# Altium integrated library AMCC PowerPC 440.IntLib: 120 symbols (part 20 of 33)
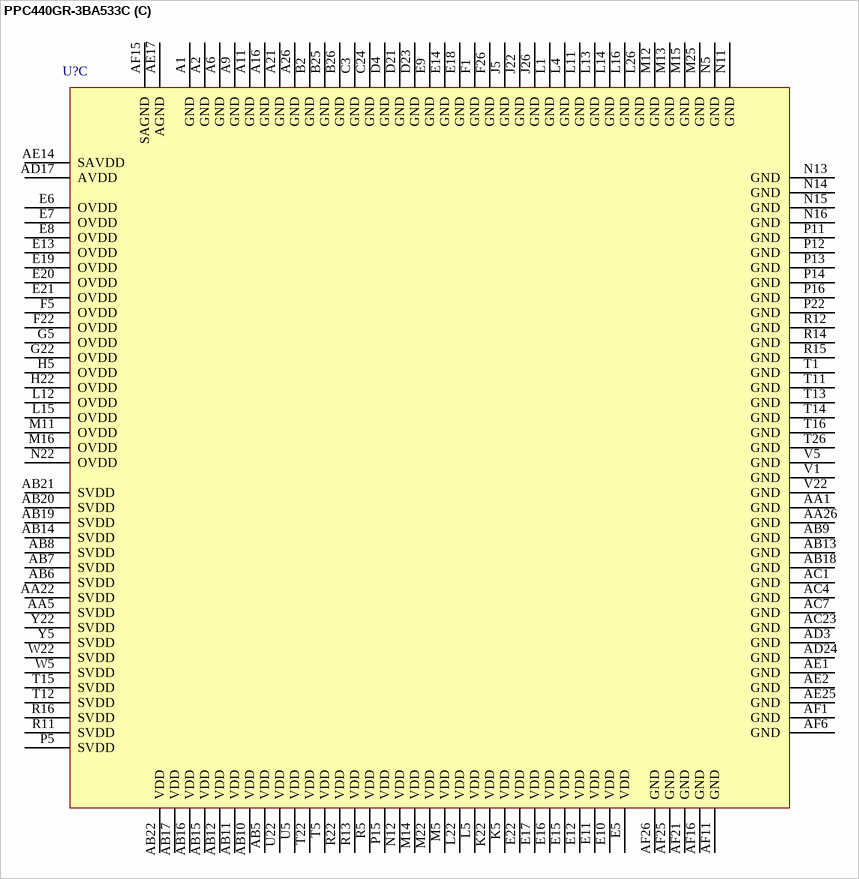
[diagram p418: symbol PPC440GR-3BA533C]

## PPC440GR-3BA533C
designator U?
PowerPC 440GR Embedded Processor, 533MHz, 35mm, 456 Ball E-PBGA; Note: Pin names with asterisk have multipurpose and multimode signals. See description field for those functions.; Published: 6-Oct-2005; LatestRevisionDate: 13-Apr-2006; LatestRevisionNote: IPC-7351 Footprint Added.; DatasheetVersion: rev1.15, May-2006; PackageVersion: May-2006; PackageReference: E-PBGA456_75; Publisher: Altium Limited; PackageDescription: 456-Ball Enhanced Plastic Ball Grid Array (E-PBGA); ComponentLink1Description: Manufacturer Link; ComponentLink1URL: http://www.amcc.com/; ComponentLink2Description: Datasheet; ComponentLink2URL: https://www.amcc.com/MyAMCC/retrieveDocument/PowerPC/440GR/PPC440GR_DS2031_v1_15.pdf
footprint E-PBGA456_75 (BGA, 456-Leads, Body 35x35mm, Pitch 1.27mm)
3D model PPC440GR-E-PBGA456 (456-Ball Enhanced Plastic Ball Grid Array (E-PBGA))
part A pins: A3 TestEn (in), A4 ~{PerCS}2[~{NFCE}2][GPIO07] (io), A5 PerAddr05[GPIO02][EOT2/TC2] (io), A7 PerAddr09 (io), A8 PerAddr13 (io), A10 ~{PerCS}5[GPIO10] (io), A12 PerAddr23 (io), A13 PerAddr22 (io), A14 PerAddr24 (io), A15 PerAddr28 (io), A19 IRQ9[GPIO48][EOT0/TC0] (io), AA4 TrcES1[GPIO53] (io), AA23 BusReq[GPIO31] (io), AA24 TrcBS2[GPIO51] (io), AA25 ~{ExtAc}k[GPIO30] (io), AB1 SysErr (out), AB3 TrcES2[GPIO54] (io), AB4 TrcES3[GPIO55] (io), AB25 HoldAck[GPIO29] (io), AB26 GPIO33 (io), AC6 DQS8 (io), AC8 DQS1 (io), AC9 TrcTS4[GPIO61] (io), AC12 IRQ5[ModeCtrl][DMAReq1] (in), AC19 TrcClk (out), AC22 TrcTS0[GPIO57] (io), AC25 TrcBS1[GPIO50] (io), AC26 GPIO26 (io), AD4 TrcTS2[GPIO59] (io), AD6 TrcTS3[GPIO60] (io), AD7 DM1 (out), AD9 DQS0 (io), AD11 TmrClk1 (in), AD12 TrcTS5[GPIO62] (io), AD25 TmrClk2 (in), AD26 ~{ExtRe}q[GPIO27] (io), AE5 DM0 (out), AE6 SVREF2B (in), AE15 TrcTS6[GPIO63] (io), AE18 ~{SysRese}t (io), AE19 SysClk (in), AE21 TrcBS0[GPIO49] (io), AE24 TrcTS1[GPIO58] (io), AF3 BA0 (out), AF4 BA1 (out), AF5 ClkEn (out), AF7 DM8 (out), AF22 TrcES4[GPIO56] (io), B1 PerData15 (io), B3 ~{PerO}E (out), B4 PerAddr02[GPIO05][EOT3/TC3] (io), B5 TCK (in), B6 PerAddr06[GPIO01][DMAAck2] (io), B7 ~{PerCS}3[NFCE3][GPIO08] (io), B8 PerAddr11 (io), B9 PerAddr14 (io), B10 ~{PerCS}4[GPIO09] (io), B11 PerAddr19 (io), B12 PerAddr20 (io), B13 PerAddr25 (io), B14 PerAddr27 (io), B15 PerAddr29 (io), B23 ~{ExtRese}t (out), B24 IRQ7[GPIO46][DMAReq0] (io), C1 PerData12 (io), C2 PerClk (out), C4 ~{PerWBE}1 (io), C5 PerReady (in), C6 ~{PerCS}1[~{NFCE}1][GPIO06] (io), C7 PerAddr03[GPIO04][DMAAck3] (io), C8 PerAddr07[GPIO00][DMAReq2] (io), C9 PerAddr10 (io), C10 PerAddr15 (io), C11 PerAddr16 (io), C12 PerAddr18 (io), C13 PerAddr26 (io), C14 PerAddr30 (io), C17 TDI (in), C21 TDO (out), C25 ~{Hal}t[DrvrInh2] (in), C26 PSROOut (out), D1 PerData10 (io), D2 TMS (in), D3 IRQ0[GPIO40] (io), D5 PerR/~{W} (io), D6 ~{PerCS}0[~{NFCE}0] (out), D7 ~{TRS}T (in), D8 PerAddr04[GPIO03][DMAReq3] (io), D9 PerAddr08 (io), D10 PerAddr12 (io), D11 ~{PerBLas}t (io), D12 PerAddr17 (io), D13 PerAddr21 (io), D14 PerAddr31 (io), D18 IRQ8[GPIO47][DMAAck0] (io), E1 PerData06 (io), E2 PerData09 (io), E3 PerData14 (io), E4 PerErr[GPIO11] (io), F2 IRQ2[GPIO42] (io), F3 PerData11 (io), F4 PerData13 (io), G1 PerData02 (io), G2 IRQ3[GPIO43] (io), G3 PerData07 (io), G4 IRQ1[GPIO41] (io), G25 IRQ4[GPIO44][DMAAck1] (io), H1 PerData00 (io), H2 ~{PerWBE}0 (io), H3 PerData05 (io), H4 PerData08 (io), H23 IRQ6[GPIO45][EOT1/TC1] (io), J1 DM2 (out), J2 ~{CAS} (out), J3 PerData03 (io), J4 PerData04 (io), K1 ~{WE} (out), K2 ~{RA}S (out), K3 DQS2 (io), K4 PerData01 (io), L2 ECC6 (io), L3 DM3 (out), M1 ECC2 (io), M2 ECC3 (io), M3 ECC7 (io), M4 DQS3 (io), N1 ~{BankSel}3 (out), N2 ECC1 (io), N3 ECC4 (io), N4 ECC5 (io), N24 ~{UART0_DT}R[GPIO38]* (io) "UART1_Tx", P2 ECC0 (io), P3 SVREF2A (in), P23 UARTSerClk (in), P24 ~{UART0_R}I[GPIO39]* (io) "UART1_Rx", P25 UART0_Tx (out), R1 ~{BankSel}2 (out), R2 ~{BankSel}1 (out), R4 ~{BankSel}0 (out), R25 ~{UART0_DC}D[GPIO34]* (io) "U\A\R\T\1\_\C\T\S/UART2_Tx", R26 ~{UART0_RT}S[GPIO37]* (io) "UART3_Tx", T25 UART0_Rx (in), U26 ~{UART0_DS}R[GPIO35]* (io) "U\A\R\T\1\_\R\T\S/UART2_Rx", V24 HoldPri[LeakTest] (in), V26 ~{UART0_CT}S[GPIO36]* (io) "UART3_Rx", W4 SVREF1 (in), W23 RefEn (in), W24 GPIO32 (io), Y3 TrcES0[GPIO52] (io), Y23 HoldReq[RcvrInh] (in), Y24 GPIO28 (io), Y25 RejectPkt[DrvrInh1] (in)
part B pins: A17 PCIAD03 (io), A18 PCIAD05 (io), A20 PCIAD09 (io), A22 ~{PCIReq}4 (in), A23 PCIAD12 (io), A24 PCIAD13 (io), A25 ~{PCIGnt}2 (out), AA2 MemData23 (io), AA3 MemData21 (io), AB2 MemAddr09 (out), AB23 Reserved, AB24 Reserved, AC2 MemData20 (io), AC3 MemData19 (io), AC5 MemData17 (io), AC10 MemData12 (io), AC11 MemData06 (io), AC13 MemData02 (io), AC14 EMCTxD3[GPIO19][NFALE]* (io) "EMC1TxD1", AC15 EMCTxClk,EMCRefClk (in), AC16 EMCCD[GPIO25][~{NFRdyBus}y]* (io) "EMC1RxErr", AC17 EMCRxD3[GPIO15]* (io) "EMC1RxD1", AC18 EMCMDIO (io), AC20 Reserved, AC21 Reserved, AC24 Reserved, AD1 MemAddr11 (out), AD2 MemAddr12 (out), AD5 MemData15 (io), AD8 MemData14 (io), AD10 MemData09 (io), AD13 MemData01 (io), AD14 EMCTxD0[GPIO16]* (io) "EMC0TxD0,EMC0TxD", AD15 EMCCrS[GPIO22]* (io) "EMC0CrsDV", AD16 EMCRxErr[GPIO20]* (io) "EMC0RxErr", AD18 EMCRxD2[GPIO14]* (io) "EMC1RxD0", AD19 EMCRxD0[GPIO12]* (io) "EMC0RxD0,EMC0RxD", AD20 Reserved, AD21 Reserved, AD22 Reserved, AD23 Reserved, AE3 MemData16 (io), AE4 MemSelfRef (in), AE7 MemData13 (io), AE8 MemData11 (io), AE9 MemData08 (io), AE10 MemData05 (io), AE11 MemData03 (io), AE12 MemData00 (io), AE13 ~{MemClkOut}0 (out), AE16 EMCMDClk (out), AE20 EMCRxD1[GPIO13]* (io) "EMC0RxD1,EMC1RxD", AE22 Reserved, AE23 Reserved, AE26 Reserved, AF2 MemData18 (io), AF8 MemData10 (io), AF9 MemData07 (io), AF10 MemData04 (io), AF12 MemClkOut0 (out), AF13 EMCTxD1[GPIO17]* (io) "EMC0TxD1,EMC1TxD", AF14 EMCTxD2[GPIO18][NFCLE]* (io) "EMC1TxD0", AF17 EMCDV[GPIO21][~{NFRE}n]* (io) "EMC1CrsDV", AF18 EMCTxErr[GPIO23][~{NFWE}n]* (io) "EMC1TxEn", AF19 EMCRxClk (io), AF20 EMCTxEn[GPIO24]* (io) "EMC0TxEn,EMCSync", AF23 Reserved, AF24 Reserved, B16 PCIAD00 (io), B17 PCIAD04 (io), B18 PCIC0/~{BE}0 (io), B19 ~{PCIReq}2 (in), B20 ~{PCIReq}1 (in), B21 PCIClk (in), B22 PCIAD11 (io), C15 PCIAD01 (io), C16 PCIAD06 (io), C18 PCIAD08 (io), C19 ~{PCIReq}3 (in), C20 PCIAD10 (io), C22 PCIAD14 (io), C23 PCIPar (io), D15 PCIAD02 (io), D16 PCIAD07 (io), D17 ~{PCIGnt}0/~{Req} (io), D19 ~{PCIRese}t (out), D20 ~{PCIIN}T (out), D22 PCIAD15 (io), D24 ~{PCIPEr}r (io), D25 ~{PCIGnt}3 (out), D26 ~{PCIDevSe}l (io), E23 ~{PCISto}p (io), E24 ~{PCIGnt}5 (out), E25 ~{PCIIRD}Y (io), E26 PCIC3/~{BE}3 (io), F23 PCIC1/~{BE}1 (io), F24 PCIC2/~{BE}2 (io), F25 PCIAD17 (io), G23 ~{PCITRD}Y (io), G24 ~{PCIFram}e (io), G26 PCIIDSel (in), H24 PCIAD16 (io), H25 ~{PCIGnt}4 (out), H26 ~{PCIReq}5 (in), J23 ~{PCISEr}r (io), J24 PCIAD18 (io), J25 PCIAD21 (io), K23 PCIAD19 (io), K24 PCIAD20 (io), K25 PCIAD23 (io), K26 PCIAD24 (io), L23 PCIAD22 (io), L24 ~{PCIGnt}1 (io), L25 PCIAD27 (io), M23 PCIAD26 (io), M24 PCIAD25 (io), M26 PCIAD30 (io), N23 PCIAD28 (io), N25 ~{PCIReq}0/~{Gn}t (in), N26 PCIAD29 (io), P1 MemAddr00 (out), P4 MemAddr01 (out), P26 PCIAD31 (io), R3 MemAddr10 (out), R23 Reserved, R24 Reserved, T2 MemAddr02 (out), T3 MemData30 (io), T4 MemAddr03 (out), T23 SCPDO (out), T24 IIC0SData (io), U1 MemAddr04 (out), U2 MemData31 (io), U3 MemData29 (io), U4 MemAddr06 (out), U23 Reserved, U24 SCPClkOut[IIC1SClk] (out), U25 IIC0SClk (io), V2 MemAddr05 (out), V3 MemData26 (io), V4 MemData24 (io), V23 Reserved, V25 SCPDI[IIC1SData] (in), W1 MemData28 (io), W2 MemData27 (io), W3 MemAddr07 (out), W25 Reserved, W26 Reserved, Y1 MemData25 (io), Y2 MemAddr08 (out), Y4 MemData22 (io), Y26 Reserved
part C pins: A1 GND (power), A2 GND (power), A6 GND (power), A9 GND (power), A11 GND (power), A16 GND (power), A21 GND (power), A26 GND (power), AA1 GND (power), AA5 SVDD (power), AA22 SVDD (power), AA26 GND (power), AB5 VDD (power), AB6 SVDD (power), AB7 SVDD (power), AB8 SVDD (power), AB9 GND (power), AB10 VDD (power), AB11 VDD (power), AB12 VDD (power), AB13 GND (power), AB14 SVDD (power), AB15 VDD (power), AB16 VDD (power), AB17 VDD (power), AB18 GND (power), AB19 SVDD (power), AB20 SVDD (power), AB21 SVDD (power), AB22 VDD (power), AC1 GND (power), AC4 GND (power), AC7 GND (power), AC23 GND (power), AD3 GND (power), AD17 AVDD (power), AD24 GND (power), AE1 GND (power), AE2 GND (power), AE14 SAVDD (power), AE17 AGND (power), AE25 GND (power), AF1 GND (power), AF6 GND (power), AF11 GND (power), AF15 SAGND (power), AF16 GND (power), AF21 GND (power), AF25 GND (power), AF26 GND (power), B2 GND (power), B25 GND (power), B26 GND (power), C3 GND (power), C24 GND (power), D4 GND (power), D21 GND (power), D23 GND (power), E5 VDD (power), E6 OVDD (power), E7 OVDD (power), E8 OVDD (power), E9 GND (power), E10 VDD (power), E11 VDD (power), E12 VDD (power), E13 OVDD (power), E14 GND (power), E15 VDD (power), E16 VDD (power), E17 VDD (power), E18 GND (power), E19 OVDD (power), E20 OVDD (power), E21 OVDD (power), E22 VDD (power), F1 GND (power), F5 OVDD (power), F22 OVDD (power), F26 GND (power), G5 OVDD (power), G22 OVDD (power), H5 OVDD (power), H22 OVDD (power), J5 GND (power), J22 GND (power), J26 GND (power), K5 VDD (power), K22 VDD (power), L1 GND (power), L4 GND (power), L5 VDD (power), L11 GND (power), L12 OVDD (power), L13 GND (power), L14 GND (power), L15 OVDD (power), L16 GND (power), L22 VDD (power), L26 GND (power), M5 VDD (power), M11 OVDD (power), M12 GND (power), M13 GND (power), M14 VDD (power), M15 GND (power), M16 OVDD (power), M22 VDD (power), M25 GND (power), N5 GND (power), N11 GND (power), N12 VDD (power), N13 GND (power), N14 GND (power), N15 GND (power), N16 GND (power), N22 OVDD (power), P5 SVDD (power), P11 GND (power), P12 GND (power), P13 GND (power), P14 GND (power), P15 VDD (power), P16 GND (power), P22 GND (power), R5 VDD (power), R11 SVDD (power), R12 GND (power), R13 VDD (power), R14 GND (power), R15 GND (power), R16 SVDD (power), R22 VDD (power), T1 GND (power), T5 VDD (power), T11 GND (power), T12 SVDD (power), T13 GND (power), T14 GND (power), T15 SVDD (power), T16 GND (power), T22 VDD (power), T26 GND (power), U5 VDD (power), U22 VDD (power), V1 GND (power), V5 GND (power), V22 GND (power), W5 SVDD (power), W22 SVDD (power), Y5 SVDD (power), Y22 SVDD (power)

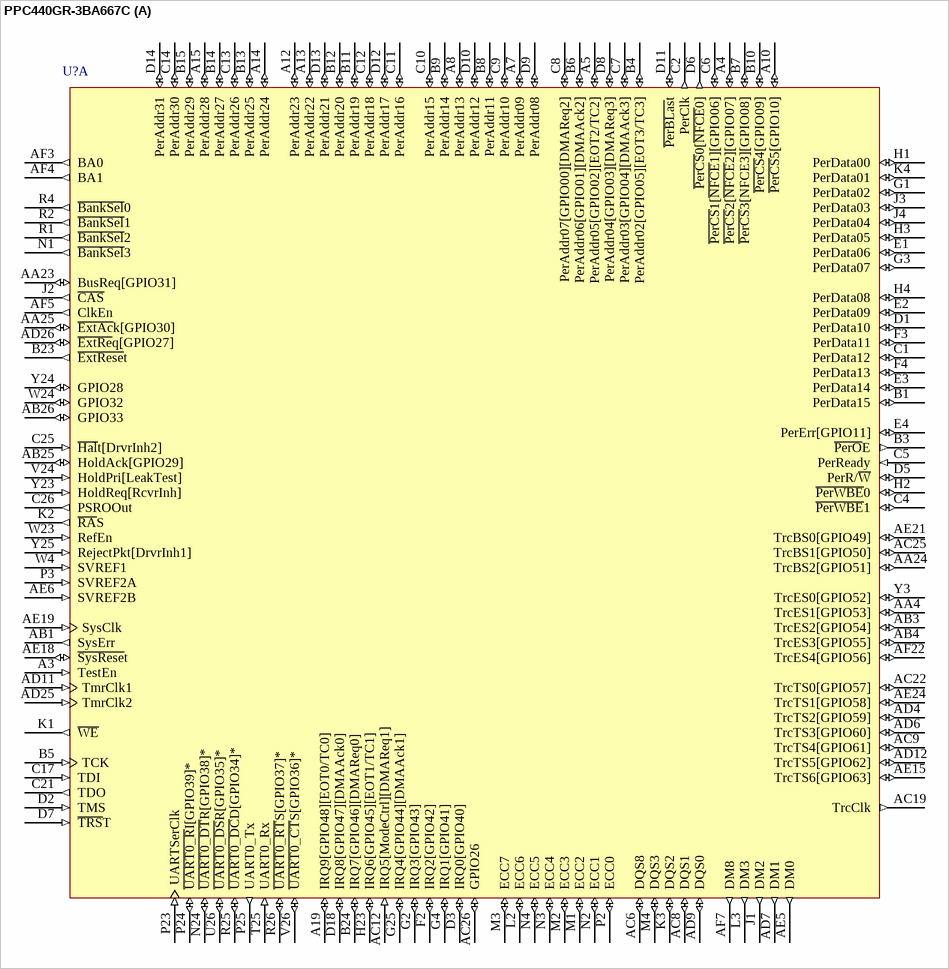
[diagram p242: symbol PPC440GR-3BA667C]

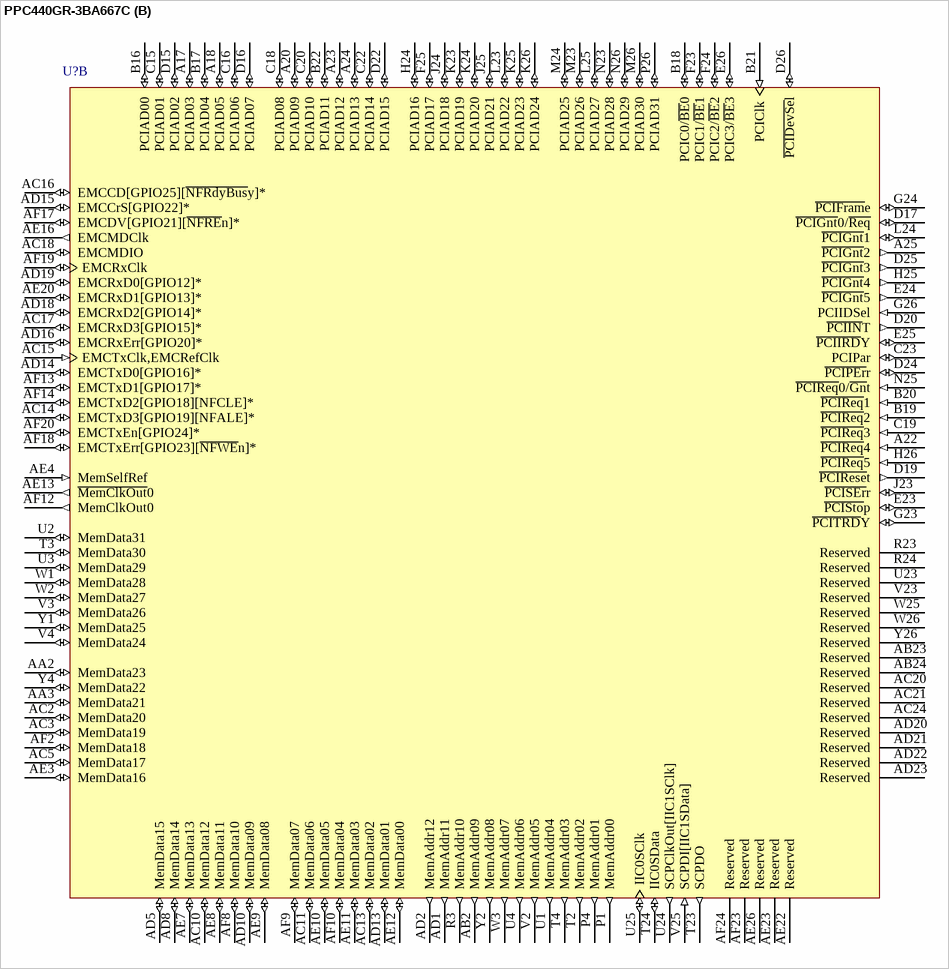
[diagram p243: symbol PPC440GR-3BA667C]

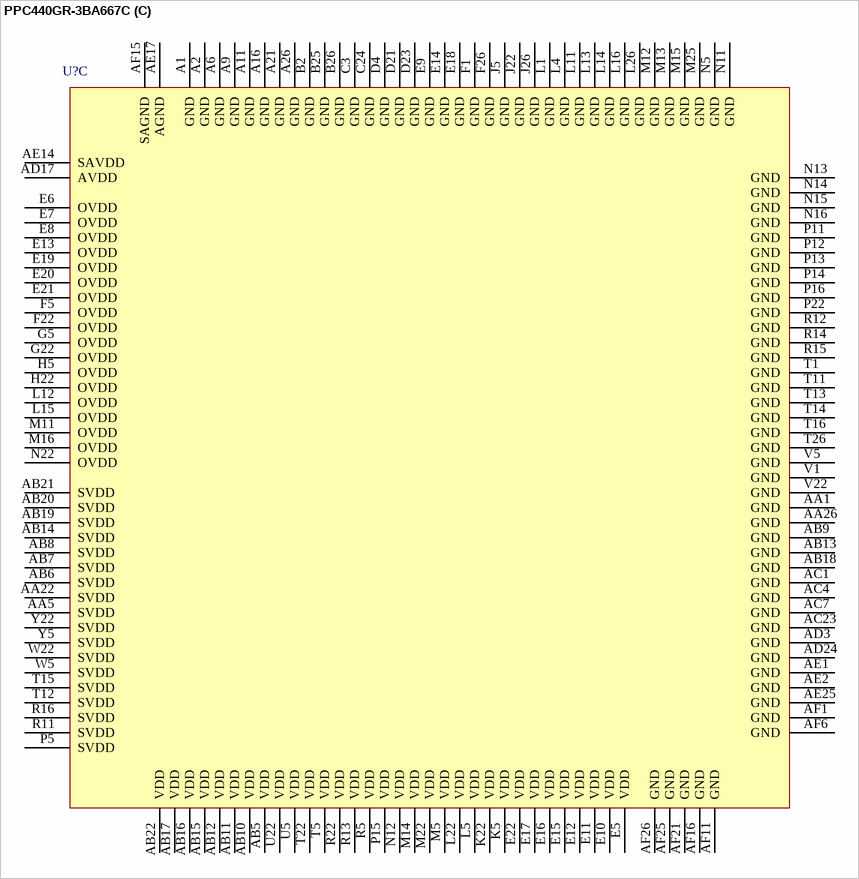
[diagram p244: symbol PPC440GR-3BA667C]

## PPC440GR-3BA667C
designator U?
PowerPC 440GR Embedded Processor, 667MHz, 35mm, 456 Ball E-PBGA; Note: Pin names with asterisk have multipurpose and multimode signals. See description field for those functions.; Published: 6-Oct-2005; LatestRevisionDate: 13-Apr-2006; LatestRevisionNote: IPC-7351 Footprint Added.; DatasheetVersion: rev1.15, May-2006; PackageVersion: May-2006; PackageReference: E-PBGA456_75; Publisher: Altium Limited; PackageDescription: 456-Ball Enhanced Plastic Ball Grid Array (E-PBGA); ComponentLink1Description: Manufacturer Link; ComponentLink1URL: http://www.amcc.com/; ComponentLink2Description: Datasheet; ComponentLink2URL: https://www.amcc.com/MyAMCC/retrieveDocument/PowerPC/440GR/PPC440GR_DS2031_v1_15.pdf
footprint E-PBGA456_75 (BGA, 456-Leads, Body 35x35mm, Pitch 1.27mm)
3D model PPC440GR-E-PBGA456 (456-Ball Enhanced Plastic Ball Grid Array (E-PBGA))
part A pins: A3 TestEn (in), A4 ~{PerCS}2[~{NFCE}2][GPIO07] (io), A5 PerAddr05[GPIO02][EOT2/TC2] (io), A7 PerAddr09 (io), A8 PerAddr13 (io), A10 ~{PerCS}5[GPIO10] (io), A12 PerAddr23 (io), A13 PerAddr22 (io), A14 PerAddr24 (io), A15 PerAddr28 (io), A19 IRQ9[GPIO48][EOT0/TC0] (io), AA4 TrcES1[GPIO53] (io), AA23 BusReq[GPIO31] (io), AA24 TrcBS2[GPIO51] (io), AA25 ~{ExtAc}k[GPIO30] (io), AB1 SysErr (out), AB3 TrcES2[GPIO54] (io), AB4 TrcES3[GPIO55] (io), AB25 HoldAck[GPIO29] (io), AB26 GPIO33 (io), AC6 DQS8 (io), AC8 DQS1 (io), AC9 TrcTS4[GPIO61] (io), AC12 IRQ5[ModeCtrl][DMAReq1] (in), AC19 TrcClk (out), AC22 TrcTS0[GPIO57] (io), AC25 TrcBS1[GPIO50] (io), AC26 GPIO26 (io), AD4 TrcTS2[GPIO59] (io), AD6 TrcTS3[GPIO60] (io), AD7 DM1 (out), AD9 DQS0 (io), AD11 TmrClk1 (in), AD12 TrcTS5[GPIO62] (io), AD25 TmrClk2 (in), AD26 ~{ExtRe}q[GPIO27] (io), AE5 DM0 (out), AE6 SVREF2B (in), AE15 TrcTS6[GPIO63] (io), AE18 ~{SysRese}t (io), AE19 SysClk (in), AE21 TrcBS0[GPIO49] (io), AE24 TrcTS1[GPIO58] (io), AF3 BA0 (out), AF4 BA1 (out), AF5 ClkEn (out), AF7 DM8 (out), AF22 TrcES4[GPIO56] (io), B1 PerData15 (io), B3 ~{PerO}E (out), B4 PerAddr02[GPIO05][EOT3/TC3] (io), B5 TCK (in), B6 PerAddr06[GPIO01][DMAAck2] (io), B7 ~{PerCS}3[NFCE3][GPIO08] (io), B8 PerAddr11 (io), B9 PerAddr14 (io), B10 ~{PerCS}4[GPIO09] (io), B11 PerAddr19 (io), B12 PerAddr20 (io), B13 PerAddr25 (io), B14 PerAddr27 (io), B15 PerAddr29 (io), B23 ~{ExtRese}t (out), B24 IRQ7[GPIO46][DMAReq0] (io), C1 PerData12 (io), C2 PerClk (out), C4 ~{PerWBE}1 (io), C5 PerReady (in), C6 ~{PerCS}1[~{NFCE}1][GPIO06] (io), C7 PerAddr03[GPIO04][DMAAck3] (io), C8 PerAddr07[GPIO00][DMAReq2] (io), C9 PerAddr10 (io), C10 PerAddr15 (io), C11 PerAddr16 (io), C12 PerAddr18 (io), C13 PerAddr26 (io), C14 PerAddr30 (io), C17 TDI (in), C21 TDO (out), C25 ~{Hal}t[DrvrInh2] (in), C26 PSROOut (out), D1 PerData10 (io), D2 TMS (in), D3 IRQ0[GPIO40] (io), D5 PerR/~{W} (io), D6 ~{PerCS}0[~{NFCE}0] (out), D7 ~{TRS}T (in), D8 PerAddr04[GPIO03][DMAReq3] (io), D9 PerAddr08 (io), D10 PerAddr12 (io), D11 ~{PerBLas}t (io), D12 PerAddr17 (io), D13 PerAddr21 (io), D14 PerAddr31 (io), D18 IRQ8[GPIO47][DMAAck0] (io), E1 PerData06 (io), E2 PerData09 (io), E3 PerData14 (io), E4 PerErr[GPIO11] (io), F2 IRQ2[GPIO42] (io), F3 PerData11 (io), F4 PerData13 (io), G1 PerData02 (io), G2 IRQ3[GPIO43] (io), G3 PerData07 (io), G4 IRQ1[GPIO41] (io), G25 IRQ4[GPIO44][DMAAck1] (io), H1 PerData00 (io), H2 ~{PerWBE}0 (io), H3 PerData05 (io), H4 PerData08 (io), H23 IRQ6[GPIO45][EOT1/TC1] (io), J1 DM2 (out), J2 ~{CAS} (out), J3 PerData03 (io), J4 PerData04 (io), K1 ~{WE} (out), K2 ~{RA}S (out), K3 DQS2 (io), K4 PerData01 (io), L2 ECC6 (io), L3 DM3 (out), M1 ECC2 (io), M2 ECC3 (io), M3 ECC7 (io), M4 DQS3 (io), N1 ~{BankSel}3 (out), N2 ECC1 (io), N3 ECC4 (io), N4 ECC5 (io), N24 ~{UART0_DT}R[GPIO38]* (io) "UART1_Tx", P2 ECC0 (io), P3 SVREF2A (in), P23 UARTSerClk (in), P24 ~{UART0_R}I[GPIO39]* (io) "UART1_Rx", P25 UART0_Tx (out), R1 ~{BankSel}2 (out), R2 ~{BankSel}1 (out), R4 ~{BankSel}0 (out), R25 ~{UART0_DC}D[GPIO34]* (io) "U\A\R\T\1\_\C\T\S/UART2_Tx", R26 ~{UART0_RT}S[GPIO37]* (io) "UART3_Tx", T25 UART0_Rx (in), U26 ~{UART0_DS}R[GPIO35]* (io) "U\A\R\T\1\_\R\T\S/UART2_Rx", V24 HoldPri[LeakTest] (in), V26 ~{UART0_CT}S[GPIO36]* (io) "UART3_Rx", W4 SVREF1 (in), W23 RefEn (in), W24 GPIO32 (io), Y3 TrcES0[GPIO52] (io), Y23 HoldReq[RcvrInh] (in), Y24 GPIO28 (io), Y25 RejectPkt[DrvrInh1] (in)
part B pins: A17 PCIAD03 (io), A18 PCIAD05 (io), A20 PCIAD09 (io), A22 ~{PCIReq}4 (in), A23 PCIAD12 (io), A24 PCIAD13 (io), A25 ~{PCIGnt}2 (out), AA2 MemData23 (io), AA3 MemData21 (io), AB2 MemAddr09 (out), AB23 Reserved, AB24 Reserved, AC2 MemData20 (io), AC3 MemData19 (io), AC5 MemData17 (io), AC10 MemData12 (io), AC11 MemData06 (io), AC13 MemData02 (io), AC14 EMCTxD3[GPIO19][NFALE]* (io) "EMC1TxD1", AC15 EMCTxClk,EMCRefClk (in), AC16 EMCCD[GPIO25][~{NFRdyBus}y]* (io) "EMC1RxErr", AC17 EMCRxD3[GPIO15]* (io) "EMC1RxD1", AC18 EMCMDIO (io), AC20 Reserved, AC21 Reserved, AC24 Reserved, AD1 MemAddr11 (out), AD2 MemAddr12 (out), AD5 MemData15 (io), AD8 MemData14 (io), AD10 MemData09 (io), AD13 MemData01 (io), AD14 EMCTxD0[GPIO16]* (io) "EMC0TxD0,EMC0TxD", AD15 EMCCrS[GPIO22]* (io) "EMC0CrsDV", AD16 EMCRxErr[GPIO20]* (io) "EMC0RxErr", AD18 EMCRxD2[GPIO14]* (io) "EMC1RxD0", AD19 EMCRxD0[GPIO12]* (io) "EMC0RxD0,EMC0RxD", AD20 Reserved, AD21 Reserved, AD22 Reserved, AD23 Reserved, AE3 MemData16 (io), AE4 MemSelfRef (in), AE7 MemData13 (io), AE8 MemData11 (io), AE9 MemData08 (io), AE10 MemData05 (io), AE11 MemData03 (io), AE12 MemData00 (io), AE13 ~{MemClkOut}0 (out), AE16 EMCMDClk (out), AE20 EMCRxD1[GPIO13]* (io) "EMC0RxD1,EMC1RxD", AE22 Reserved, AE23 Reserved, AE26 Reserved, AF2 MemData18 (io), AF8 MemData10 (io), AF9 MemData07 (io), AF10 MemData04 (io), AF12 MemClkOut0 (out), AF13 EMCTxD1[GPIO17]* (io) "EMC0TxD1,EMC1TxD", AF14 EMCTxD2[GPIO18][NFCLE]* (io) "EMC1TxD0", AF17 EMCDV[GPIO21][~{NFRE}n]* (io) "EMC1CrsDV", AF18 EMCTxErr[GPIO23][~{NFWE}n]* (io) "EMC1TxEn", AF19 EMCRxClk (io), AF20 EMCTxEn[GPIO24]* (io) "EMC0TxEn,EMCSync", AF23 Reserved, AF24 Reserved, B16 PCIAD00 (io), B17 PCIAD04 (io), B18 PCIC0/~{BE}0 (io), B19 ~{PCIReq}2 (in), B20 ~{PCIReq}1 (in), B21 PCIClk (in), B22 PCIAD11 (io), C15 PCIAD01 (io), C16 PCIAD06 (io), C18 PCIAD08 (io), C19 ~{PCIReq}3 (in), C20 PCIAD10 (io), C22 PCIAD14 (io), C23 PCIPar (io), D15 PCIAD02 (io), D16 PCIAD07 (io), D17 ~{PCIGnt}0/~{Req} (io), D19 ~{PCIRese}t (out), D20 ~{PCIIN}T (out), D22 PCIAD15 (io), D24 ~{PCIPEr}r (io), D25 ~{PCIGnt}3 (out), D26 ~{PCIDevSe}l (io), E23 ~{PCISto}p (io), E24 ~{PCIGnt}5 (out), E25 ~{PCIIRD}Y (io), E26 PCIC3/~{BE}3 (io), F23 PCIC1/~{BE}1 (io), F24 PCIC2/~{BE}2 (io), F25 PCIAD17 (io), G23 ~{PCITRD}Y (io), G24 ~{PCIFram}e (io), G26 PCIIDSel (in), H24 PCIAD16 (io), H25 ~{PCIGnt}4 (out), H26 ~{PCIReq}5 (in), J23 ~{PCISEr}r (io), J24 PCIAD18 (io), J25 PCIAD21 (io), K23 PCIAD19 (io), K24 PCIAD20 (io), K25 PCIAD23 (io), K26 PCIAD24 (io), L23 PCIAD22 (io), L24 ~{PCIGnt}1 (io), L25 PCIAD27 (io), M23 PCIAD26 (io), M24 PCIAD25 (io), M26 PCIAD30 (io), N23 PCIAD28 (io), N25 ~{PCIReq}0/~{Gn}t (in), N26 PCIAD29 (io), P1 MemAddr00 (out), P4 MemAddr01 (out), P26 PCIAD31 (io), R3 MemAddr10 (out), R23 Reserved, R24 Reserved, T2 MemAddr02 (out), T3 MemData30 (io), T4 MemAddr03 (out), T23 SCPDO (out), T24 IIC0SData (io), U1 MemAddr04 (out), U2 MemData31 (io), U3 MemData29 (io), U4 MemAddr06 (out), U23 Reserved, U24 SCPClkOut[IIC1SClk] (out), U25 IIC0SClk (io), V2 MemAddr05 (out), V3 MemData26 (io), V4 MemData24 (io), V23 Reserved, V25 SCPDI[IIC1SData] (in), W1 MemData28 (io), W2 MemData27 (io), W3 MemAddr07 (out), W25 Reserved, W26 Reserved, Y1 MemData25 (io), Y2 MemAddr08 (out), Y4 MemData22 (io), Y26 Reserved
part C pins: A1 GND (power), A2 GND (power), A6 GND (power), A9 GND (power), A11 GND (power), A16 GND (power), A21 GND (power), A26 GND (power), AA1 GND (power), AA5 SVDD (power), AA22 SVDD (power), AA26 GND (power), AB5 VDD (power), AB6 SVDD (power), AB7 SVDD (power), AB8 SVDD (power), AB9 GND (power), AB10 VDD (power), AB11 VDD (power), AB12 VDD (power), AB13 GND (power), AB14 SVDD (power), AB15 VDD (power), AB16 VDD (power), AB17 VDD (power), AB18 GND (power), AB19 SVDD (power), AB20 SVDD (power), AB21 SVDD (power), AB22 VDD (power), AC1 GND (power), AC4 GND (power), AC7 GND (power), AC23 GND (power), AD3 GND (power), AD17 AVDD (power), AD24 GND (power), AE1 GND (power), AE2 GND (power), AE14 SAVDD (power), AE17 AGND (power), AE25 GND (power), AF1 GND (power), AF6 GND (power), AF11 GND (power), AF15 SAGND (power), AF16 GND (power), AF21 GND (power), AF25 GND (power), AF26 GND (power), B2 GND (power), B25 GND (power), B26 GND (power), C3 GND (power), C24 GND (power), D4 GND (power), D21 GND (power), D23 GND (power), E5 VDD (power), E6 OVDD (power), E7 OVDD (power), E8 OVDD (power), E9 GND (power), E10 VDD (power), E11 VDD (power), E12 VDD (power), E13 OVDD (power), E14 GND (power), E15 VDD (power), E16 VDD (power), E17 VDD (power), E18 GND (power), E19 OVDD (power), E20 OVDD (power), E21 OVDD (power), E22 VDD (power), F1 GND (power), F5 OVDD (power), F22 OVDD (power), F26 GND (power), G5 OVDD (power), G22 OVDD (power), H5 OVDD (power), H22 OVDD (power), J5 GND (power), J22 GND (power), J26 GND (power), K5 VDD (power), K22 VDD (power), L1 GND (power), L4 GND (power), L5 VDD (power), L11 GND (power), L12 OVDD (power), L13 GND (power), L14 GND (power), L15 OVDD (power), L16 GND (power), L22 VDD (power), L26 GND (power), M5 VDD (power), M11 OVDD (power), M12 GND (power), M13 GND (power), M14 VDD (power), M15 GND (power), M16 OVDD (power), M22 VDD (power), M25 GND (power), N5 GND (power), N11 GND (power), N12 VDD (power), N13 GND (power), N14 GND (power), N15 GND (power), N16 GND (power), N22 OVDD (power), P5 SVDD (power), P11 GND (power), P12 GND (power), P13 GND (power), P14 GND (power), P15 VDD (power), P16 GND (power), P22 GND (power), R5 VDD (power), R11 SVDD (power), R12 GND (power), R13 VDD (power), R14 GND (power), R15 GND (power), R16 SVDD (power), R22 VDD (power), T1 GND (power), T5 VDD (power), T11 GND (power), T12 SVDD (power), T13 GND (power), T14 GND (power), T15 SVDD (power), T16 GND (power), T22 VDD (power), T26 GND (power), U5 VDD (power), U22 VDD (power), V1 GND (power), V5 GND (power), V22 GND (power), W5 SVDD (power), W22 SVDD (power), Y5 SVDD (power), Y22 SVDD (power)

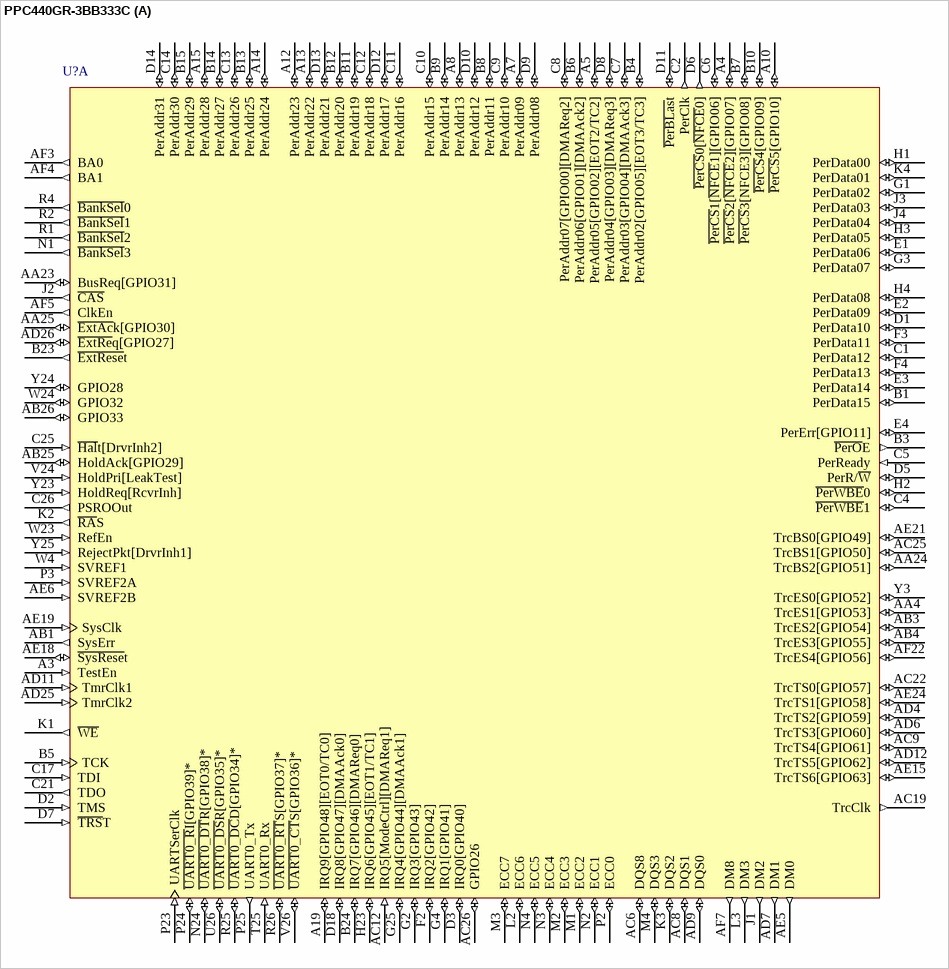
[diagram p245: symbol PPC440GR-3BB333C]

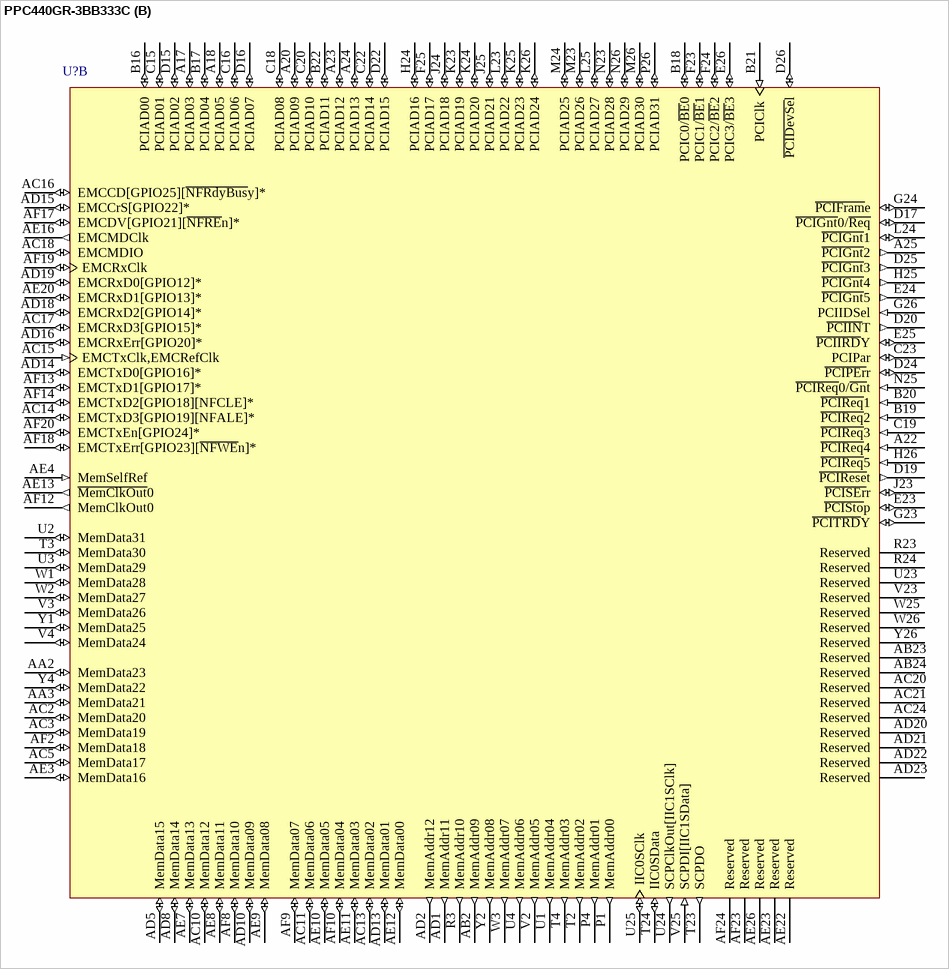
[diagram p246: symbol PPC440GR-3BB333C]

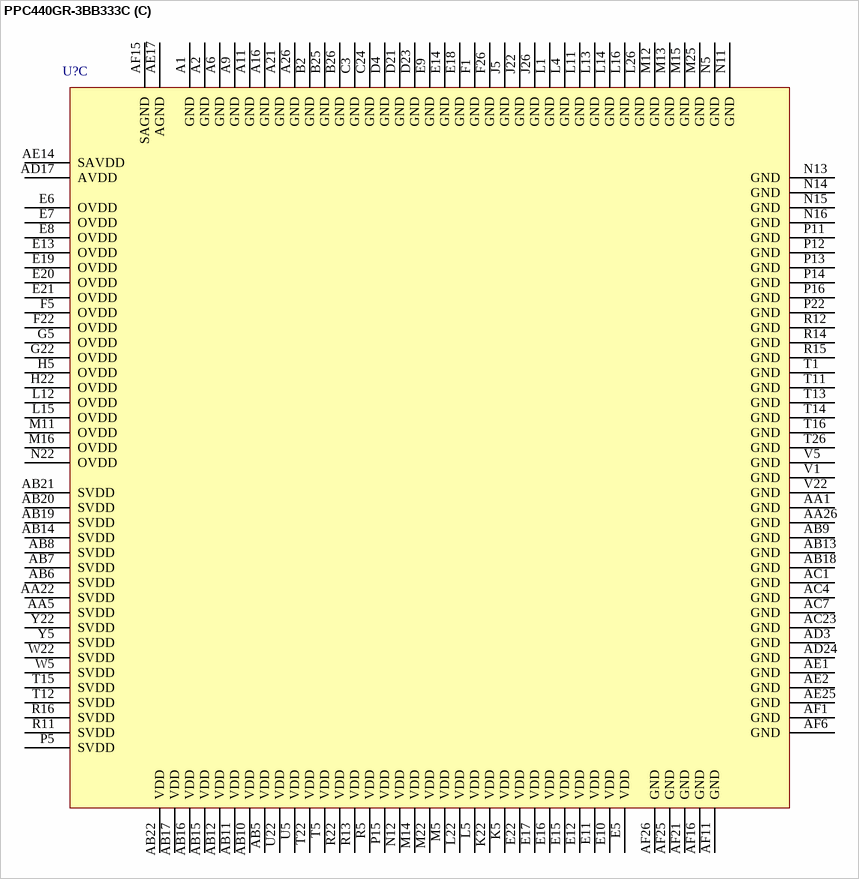
[diagram p247: symbol PPC440GR-3BB333C]

## PPC440GR-3BB333C
designator U?
PowerPC 440GR Embedded Processor, 333MHz, 35mm, 456 Ball E-PBGA; Note: Pin names with asterisk have multipurpose and multimode signals. See description field for those functions.; Published: 30-Jun-2006; DatasheetVersion: rev1.15, May-2006; PackageVersion: May-2006; PackageReference: E-PBGA456_75; Publisher: Altium Limited; PackageDescription: 456-Ball Enhanced Plastic Ball Grid Array (E-PBGA); ComponentLink1Description: Manufacturer Link; ComponentLink1URL: http://www.amcc.com/; ComponentLink2Description: Datasheet; ComponentLink2URL: https://www.amcc.com/MyAMCC/retrieveDocument/PowerPC/440GR/PPC440GR_DS2031_v1_15.pdf
footprint E-PBGA456_75 (BGA, 456-Leads, Body 35x35mm, Pitch 1.27mm)
3D model PPC440GR-E-PBGA456 (456-Ball Enhanced Plastic Ball Grid Array (E-PBGA))
part A pins: A3 TestEn (in), A4 ~{PerCS}2[~{NFCE}2][GPIO07] (io), A5 PerAddr05[GPIO02][EOT2/TC2] (io), A7 PerAddr09 (io), A8 PerAddr13 (io), A10 ~{PerCS}5[GPIO10] (io), A12 PerAddr23 (io), A13 PerAddr22 (io), A14 PerAddr24 (io), A15 PerAddr28 (io), A19 IRQ9[GPIO48][EOT0/TC0] (io), AA4 TrcES1[GPIO53] (io), AA23 BusReq[GPIO31] (io), AA24 TrcBS2[GPIO51] (io), AA25 ~{ExtAc}k[GPIO30] (io), AB1 SysErr (out), AB3 TrcES2[GPIO54] (io), AB4 TrcES3[GPIO55] (io), AB25 HoldAck[GPIO29] (io), AB26 GPIO33 (io), AC6 DQS8 (io), AC8 DQS1 (io), AC9 TrcTS4[GPIO61] (io), AC12 IRQ5[ModeCtrl][DMAReq1] (in), AC19 TrcClk (out), AC22 TrcTS0[GPIO57] (io), AC25 TrcBS1[GPIO50] (io), AC26 GPIO26 (io), AD4 TrcTS2[GPIO59] (io), AD6 TrcTS3[GPIO60] (io), AD7 DM1 (out), AD9 DQS0 (io), AD11 TmrClk1 (in), AD12 TrcTS5[GPIO62] (io), AD25 TmrClk2 (in), AD26 ~{ExtRe}q[GPIO27] (io), AE5 DM0 (out), AE6 SVREF2B (in), AE15 TrcTS6[GPIO63] (io), AE18 ~{SysRese}t (io), AE19 SysClk (in), AE21 TrcBS0[GPIO49] (io), AE24 TrcTS1[GPIO58] (io), AF3 BA0 (out), AF4 BA1 (out), AF5 ClkEn (out), AF7 DM8 (out), AF22 TrcES4[GPIO56] (io), B1 PerData15 (io), B3 ~{PerO}E (out), B4 PerAddr02[GPIO05][EOT3/TC3] (io), B5 TCK (in), B6 PerAddr06[GPIO01][DMAAck2] (io), B7 ~{PerCS}3[NFCE3][GPIO08] (io), B8 PerAddr11 (io), B9 PerAddr14 (io), B10 ~{PerCS}4[GPIO09] (io), B11 PerAddr19 (io), B12 PerAddr20 (io), B13 PerAddr25 (io), B14 PerAddr27 (io), B15 PerAddr29 (io), B23 ~{ExtRese}t (out), B24 IRQ7[GPIO46][DMAReq0] (io), C1 PerData12 (io), C2 PerClk (out), C4 ~{PerWBE}1 (io), C5 PerReady (in), C6 ~{PerCS}1[~{NFCE}1][GPIO06] (io), C7 PerAddr03[GPIO04][DMAAck3] (io), C8 PerAddr07[GPIO00][DMAReq2] (io), C9 PerAddr10 (io), C10 PerAddr15 (io), C11 PerAddr16 (io), C12 PerAddr18 (io), C13 PerAddr26 (io), C14 PerAddr30 (io), C17 TDI (in), C21 TDO (out), C25 ~{Hal}t[DrvrInh2] (in), C26 PSROOut (out), D1 PerData10 (io), D2 TMS (in), D3 IRQ0[GPIO40] (io), D5 PerR/~{W} (io), D6 ~{PerCS}0[~{NFCE}0] (out), D7 ~{TRS}T (in), D8 PerAddr04[GPIO03][DMAReq3] (io), D9 PerAddr08 (io), D10 PerAddr12 (io), D11 ~{PerBLas}t (io), D12 PerAddr17 (io), D13 PerAddr21 (io), D14 PerAddr31 (io), D18 IRQ8[GPIO47][DMAAck0] (io), E1 PerData06 (io), E2 PerData09 (io), E3 PerData14 (io), E4 PerErr[GPIO11] (io), F2 IRQ2[GPIO42] (io), F3 PerData11 (io), F4 PerData13 (io), G1 PerData02 (io), G2 IRQ3[GPIO43] (io), G3 PerData07 (io), G4 IRQ1[GPIO41] (io), G25 IRQ4[GPIO44][DMAAck1] (io), H1 PerData00 (io), H2 ~{PerWBE}0 (io), H3 PerData05 (io), H4 PerData08 (io), H23 IRQ6[GPIO45][EOT1/TC1] (io), J1 DM2 (out), J2 ~{CAS} (out), J3 PerData03 (io), J4 PerData04 (io), K1 ~{WE} (out), K2 ~{RA}S (out), K3 DQS2 (io), K4 PerData01 (io), L2 ECC6 (io), L3 DM3 (out), M1 ECC2 (io), M2 ECC3 (io), M3 ECC7 (io), M4 DQS3 (io), N1 ~{BankSel}3 (out), N2 ECC1 (io), N3 ECC4 (io), N4 ECC5 (io), N24 ~{UART0_DT}R[GPIO38]* (io) "UART1_Tx", P2 ECC0 (io), P3 SVREF2A (in), P23 UARTSerClk (in), P24 ~{UART0_R}I[GPIO39]* (io) "UART1_Rx", P25 UART0_Tx (out), R1 ~{BankSel}2 (out), R2 ~{BankSel}1 (out), R4 ~{BankSel}0 (out), R25 ~{UART0_DC}D[GPIO34]* (io) "U\A\R\T\1\_\C\T\S/UART2_Tx", R26 ~{UART0_RT}S[GPIO37]* (io) "UART3_Tx", T25 UART0_Rx (in), U26 ~{UART0_DS}R[GPIO35]* (io) "U\A\R\T\1\_\R\T\S/UART2_Rx", V24 HoldPri[LeakTest] (in), V26 ~{UART0_CT}S[GPIO36]* (io) "UART3_Rx", W4 SVREF1 (in), W23 RefEn (in), W24 GPIO32 (io), Y3 TrcES0[GPIO52] (io), Y23 HoldReq[RcvrInh] (in), Y24 GPIO28 (io), Y25 RejectPkt[DrvrInh1] (in)
part B pins: A17 PCIAD03 (io), A18 PCIAD05 (io), A20 PCIAD09 (io), A22 ~{PCIReq}4 (in), A23 PCIAD12 (io), A24 PCIAD13 (io), A25 ~{PCIGnt}2 (out), AA2 MemData23 (io), AA3 MemData21 (io), AB2 MemAddr09 (out), AB23 Reserved, AB24 Reserved, AC2 MemData20 (io), AC3 MemData19 (io), AC5 MemData17 (io), AC10 MemData12 (io), AC11 MemData06 (io), AC13 MemData02 (io), AC14 EMCTxD3[GPIO19][NFALE]* (io) "EMC1TxD1", AC15 EMCTxClk,EMCRefClk (in), AC16 EMCCD[GPIO25][~{NFRdyBus}y]* (io) "EMC1RxErr", AC17 EMCRxD3[GPIO15]* (io) "EMC1RxD1", AC18 EMCMDIO (io), AC20 Reserved, AC21 Reserved, AC24 Reserved, AD1 MemAddr11 (out), AD2 MemAddr12 (out), AD5 MemData15 (io), AD8 MemData14 (io), AD10 MemData09 (io), AD13 MemData01 (io), AD14 EMCTxD0[GPIO16]* (io) "EMC0TxD0,EMC0TxD", AD15 EMCCrS[GPIO22]* (io) "EMC0CrsDV", AD16 EMCRxErr[GPIO20]* (io) "EMC0RxErr", AD18 EMCRxD2[GPIO14]* (io) "EMC1RxD0", AD19 EMCRxD0[GPIO12]* (io) "EMC0RxD0,EMC0RxD", AD20 Reserved, AD21 Reserved, AD22 Reserved, AD23 Reserved, AE3 MemData16 (io), AE4 MemSelfRef (in), AE7 MemData13 (io), AE8 MemData11 (io), AE9 MemData08 (io), AE10 MemData05 (io), AE11 MemData03 (io), AE12 MemData00 (io), AE13 ~{MemClkOut}0 (out), AE16 EMCMDClk (out), AE20 EMCRxD1[GPIO13]* (io) "EMC0RxD1,EMC1RxD", AE22 Reserved, AE23 Reserved, AE26 Reserved, AF2 MemData18 (io), AF8 MemData10 (io), AF9 MemData07 (io), AF10 MemData04 (io), AF12 MemClkOut0 (out), AF13 EMCTxD1[GPIO17]* (io) "EMC0TxD1,EMC1TxD", AF14 EMCTxD2[GPIO18][NFCLE]* (io) "EMC1TxD0", AF17 EMCDV[GPIO21][~{NFRE}n]* (io) "EMC1CrsDV", AF18 EMCTxErr[GPIO23][~{NFWE}n]* (io) "EMC1TxEn", AF19 EMCRxClk (io), AF20 EMCTxEn[GPIO24]* (io) "EMC0TxEn,EMCSync", AF23 Reserved, AF24 Reserved, B16 PCIAD00 (io), B17 PCIAD04 (io), B18 PCIC0/~{BE}0 (io), B19 ~{PCIReq}2 (in), B20 ~{PCIReq}1 (in), B21 PCIClk (in), B22 PCIAD11 (io), C15 PCIAD01 (io), C16 PCIAD06 (io), C18 PCIAD08 (io), C19 ~{PCIReq}3 (in), C20 PCIAD10 (io), C22 PCIAD14 (io), C23 PCIPar (io), D15 PCIAD02 (io), D16 PCIAD07 (io), D17 ~{PCIGnt}0/~{Req} (io), D19 ~{PCIRese}t (out), D20 ~{PCIIN}T (out), D22 PCIAD15 (io), D24 ~{PCIPEr}r (io), D25 ~{PCIGnt}3 (out), D26 ~{PCIDevSe}l (io), E23 ~{PCISto}p (io), E24 ~{PCIGnt}5 (out), E25 ~{PCIIRD}Y (io), E26 PCIC3/~{BE}3 (io), F23 PCIC1/~{BE}1 (io), F24 PCIC2/~{BE}2 (io), F25 PCIAD17 (io), G23 ~{PCITRD}Y (io), G24 ~{PCIFram}e (io), G26 PCIIDSel (in), H24 PCIAD16 (io), H25 ~{PCIGnt}4 (out), H26 ~{PCIReq}5 (in), J23 ~{PCISEr}r (io), J24 PCIAD18 (io), J25 PCIAD21 (io), K23 PCIAD19 (io), K24 PCIAD20 (io), K25 PCIAD23 (io), K26 PCIAD24 (io), L23 PCIAD22 (io), L24 ~{PCIGnt}1 (io), L25 PCIAD27 (io), M23 PCIAD26 (io), M24 PCIAD25 (io), M26 PCIAD30 (io), N23 PCIAD28 (io), N25 ~{PCIReq}0/~{Gn}t (in), N26 PCIAD29 (io), P1 MemAddr00 (out), P4 MemAddr01 (out), P26 PCIAD31 (io), R3 MemAddr10 (out), R23 Reserved, R24 Reserved, T2 MemAddr02 (out), T3 MemData30 (io), T4 MemAddr03 (out), T23 SCPDO (out), T24 IIC0SData (io), U1 MemAddr04 (out), U2 MemData31 (io), U3 MemData29 (io), U4 MemAddr06 (out), U23 Reserved, U24 SCPClkOut[IIC1SClk] (out), U25 IIC0SClk (io), V2 MemAddr05 (out), V3 MemData26 (io), V4 MemData24 (io), V23 Reserved, V25 SCPDI[IIC1SData] (in), W1 MemData28 (io), W2 MemData27 (io), W3 MemAddr07 (out), W25 Reserved, W26 Reserved, Y1 MemData25 (io), Y2 MemAddr08 (out), Y4 MemData22 (io), Y26 Reserved
part C pins: A1 GND (power), A2 GND (power), A6 GND (power), A9 GND (power), A11 GND (power), A16 GND (power), A21 GND (power), A26 GND (power), AA1 GND (power), AA5 SVDD (power), AA22 SVDD (power), AA26 GND (power), AB5 VDD (power), AB6 SVDD (power), AB7 SVDD (power), AB8 SVDD (power), AB9 GND (power), AB10 VDD (power), AB11 VDD (power), AB12 VDD (power), AB13 GND (power), AB14 SVDD (power), AB15 VDD (power), AB16 VDD (power), AB17 VDD (power), AB18 GND (power), AB19 SVDD (power), AB20 SVDD (power), AB21 SVDD (power), AB22 VDD (power), AC1 GND (power), AC4 GND (power), AC7 GND (power), AC23 GND (power), AD3 GND (power), AD17 AVDD (power), AD24 GND (power), AE1 GND (power), AE2 GND (power), AE14 SAVDD (power), AE17 AGND (power), AE25 GND (power), AF1 GND (power), AF6 GND (power), AF11 GND (power), AF15 SAGND (power), AF16 GND (power), AF21 GND (power), AF25 GND (power), AF26 GND (power), B2 GND (power), B25 GND (power), B26 GND (power), C3 GND (power), C24 GND (power), D4 GND (power), D21 GND (power), D23 GND (power), E5 VDD (power), E6 OVDD (power), E7 OVDD (power), E8 OVDD (power), E9 GND (power), E10 VDD (power), E11 VDD (power), E12 VDD (power), E13 OVDD (power), E14 GND (power), E15 VDD (power), E16 VDD (power), E17 VDD (power), E18 GND (power), E19 OVDD (power), E20 OVDD (power), E21 OVDD (power), E22 VDD (power), F1 GND (power), F5 OVDD (power), F22 OVDD (power), F26 GND (power), G5 OVDD (power), G22 OVDD (power), H5 OVDD (power), H22 OVDD (power), J5 GND (power), J22 GND (power), J26 GND (power), K5 VDD (power), K22 VDD (power), L1 GND (power), L4 GND (power), L5 VDD (power), L11 GND (power), L12 OVDD (power), L13 GND (power), L14 GND (power), L15 OVDD (power), L16 GND (power), L22 VDD (power), L26 GND (power), M5 VDD (power), M11 OVDD (power), M12 GND (power), M13 GND (power), M14 VDD (power), M15 GND (power), M16 OVDD (power), M22 VDD (power), M25 GND (power), N5 GND (power), N11 GND (power), N12 VDD (power), N13 GND (power), N14 GND (power), N15 GND (power), N16 GND (power), N22 OVDD (power), P5 SVDD (power), P11 GND (power), P12 GND (power), P13 GND (power), P14 GND (power), P15 VDD (power), P16 GND (power), P22 GND (power), R5 VDD (power), R11 SVDD (power), R12 GND (power), R13 VDD (power), R14 GND (power), R15 GND (power), R16 SVDD (power), R22 VDD (power), T1 GND (power), T5 VDD (power), T11 GND (power), T12 SVDD (power), T13 GND (power), T14 GND (power), T15 SVDD (power), T16 GND (power), T22 VDD (power), T26 GND (power), U5 VDD (power), U22 VDD (power), V1 GND (power), V5 GND (power), V22 GND (power), W5 SVDD (power), W22 SVDD (power), Y5 SVDD (power), Y22 SVDD (power)

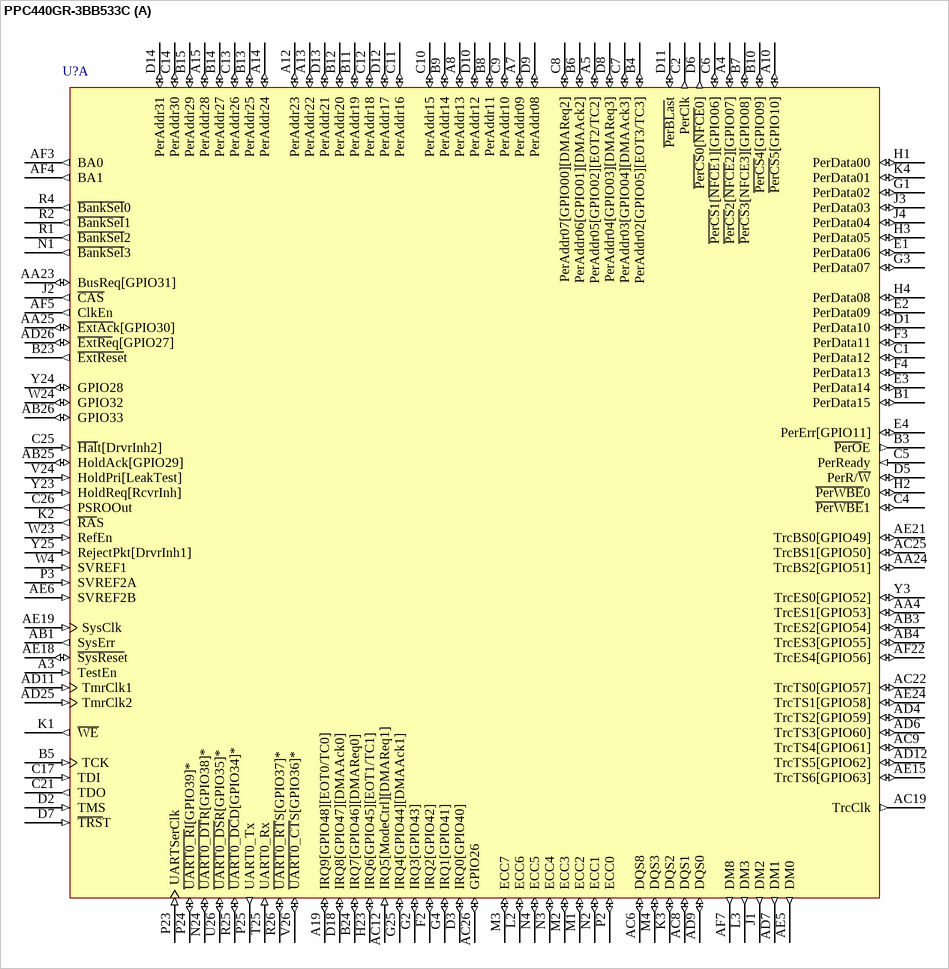
[diagram p248: symbol PPC440GR-3BB533C]

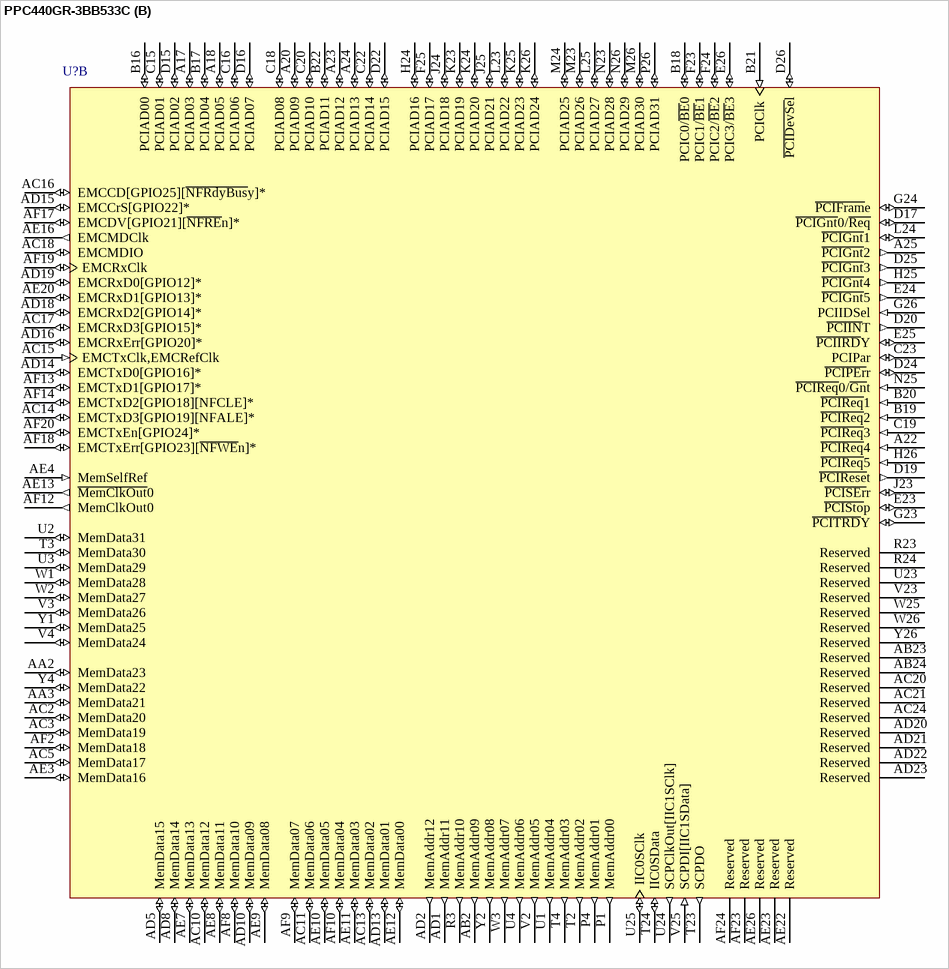
[diagram p249: symbol PPC440GR-3BB533C]

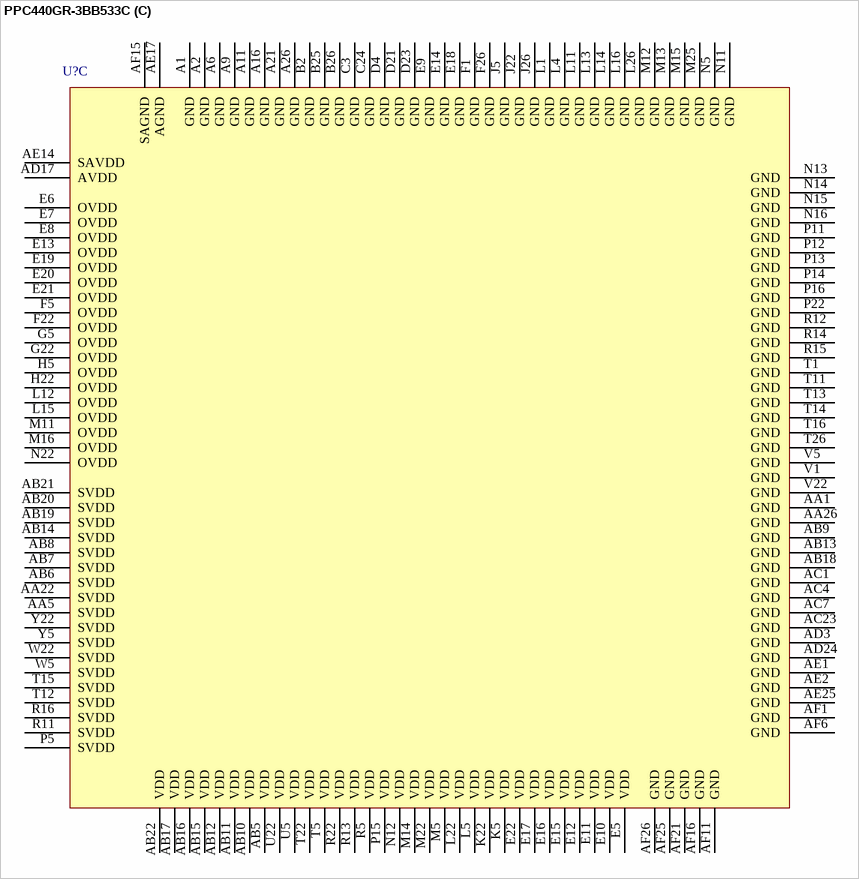
[diagram p250: symbol PPC440GR-3BB533C]

## PPC440GR-3BB533C
designator U?
PowerPC 440GR Embedded Processor, 533MHz, 35mm, 456 Ball E-PBGA; Note: Pin names with asterisk have multipurpose and multimode signals. See description field for those functions.; Published: 30-Jun-2006; DatasheetVersion: rev1.15, May-2006; PackageVersion: May-2006; PackageReference: E-PBGA456_75; Publisher: Altium Limited; PackageDescription: 456-Ball Enhanced Plastic Ball Grid Array (E-PBGA); ComponentLink1Description: Manufacturer Link; ComponentLink1URL: http://www.amcc.com/; ComponentLink2Description: Datasheet; ComponentLink2URL: https://www.amcc.com/MyAMCC/retrieveDocument/PowerPC/440GR/PPC440GR_DS2031_v1_15.pdf
footprint E-PBGA456_75 (BGA, 456-Leads, Body 35x35mm, Pitch 1.27mm)
3D model PPC440GR-E-PBGA456 (456-Ball Enhanced Plastic Ball Grid Array (E-PBGA))
part A pins: A3 TestEn (in), A4 ~{PerCS}2[~{NFCE}2][GPIO07] (io), A5 PerAddr05[GPIO02][EOT2/TC2] (io), A7 PerAddr09 (io), A8 PerAddr13 (io), A10 ~{PerCS}5[GPIO10] (io), A12 PerAddr23 (io), A13 PerAddr22 (io), A14 PerAddr24 (io), A15 PerAddr28 (io), A19 IRQ9[GPIO48][EOT0/TC0] (io), AA4 TrcES1[GPIO53] (io), AA23 BusReq[GPIO31] (io), AA24 TrcBS2[GPIO51] (io), AA25 ~{ExtAc}k[GPIO30] (io), AB1 SysErr (out), AB3 TrcES2[GPIO54] (io), AB4 TrcES3[GPIO55] (io), AB25 HoldAck[GPIO29] (io), AB26 GPIO33 (io), AC6 DQS8 (io), AC8 DQS1 (io), AC9 TrcTS4[GPIO61] (io), AC12 IRQ5[ModeCtrl][DMAReq1] (in), AC19 TrcClk (out), AC22 TrcTS0[GPIO57] (io), AC25 TrcBS1[GPIO50] (io), AC26 GPIO26 (io), AD4 TrcTS2[GPIO59] (io), AD6 TrcTS3[GPIO60] (io), AD7 DM1 (out), AD9 DQS0 (io), AD11 TmrClk1 (in), AD12 TrcTS5[GPIO62] (io), AD25 TmrClk2 (in), AD26 ~{ExtRe}q[GPIO27] (io), AE5 DM0 (out), AE6 SVREF2B (in), AE15 TrcTS6[GPIO63] (io), AE18 ~{SysRese}t (io), AE19 SysClk (in), AE21 TrcBS0[GPIO49] (io), AE24 TrcTS1[GPIO58] (io), AF3 BA0 (out), AF4 BA1 (out), AF5 ClkEn (out), AF7 DM8 (out), AF22 TrcES4[GPIO56] (io), B1 PerData15 (io), B3 ~{PerO}E (out), B4 PerAddr02[GPIO05][EOT3/TC3] (io), B5 TCK (in), B6 PerAddr06[GPIO01][DMAAck2] (io), B7 ~{PerCS}3[NFCE3][GPIO08] (io), B8 PerAddr11 (io), B9 PerAddr14 (io), B10 ~{PerCS}4[GPIO09] (io), B11 PerAddr19 (io), B12 PerAddr20 (io), B13 PerAddr25 (io), B14 PerAddr27 (io), B15 PerAddr29 (io), B23 ~{ExtRese}t (out), B24 IRQ7[GPIO46][DMAReq0] (io), C1 PerData12 (io), C2 PerClk (out), C4 ~{PerWBE}1 (io), C5 PerReady (in), C6 ~{PerCS}1[~{NFCE}1][GPIO06] (io), C7 PerAddr03[GPIO04][DMAAck3] (io), C8 PerAddr07[GPIO00][DMAReq2] (io), C9 PerAddr10 (io), C10 PerAddr15 (io), C11 PerAddr16 (io), C12 PerAddr18 (io), C13 PerAddr26 (io), C14 PerAddr30 (io), C17 TDI (in), C21 TDO (out), C25 ~{Hal}t[DrvrInh2] (in), C26 PSROOut (out), D1 PerData10 (io), D2 TMS (in), D3 IRQ0[GPIO40] (io), D5 PerR/~{W} (io), D6 ~{PerCS}0[~{NFCE}0] (out), D7 ~{TRS}T (in), D8 PerAddr04[GPIO03][DMAReq3] (io), D9 PerAddr08 (io), D10 PerAddr12 (io), D11 ~{PerBLas}t (io), D12 PerAddr17 (io), D13 PerAddr21 (io), D14 PerAddr31 (io), D18 IRQ8[GPIO47][DMAAck0] (io), E1 PerData06 (io), E2 PerData09 (io), E3 PerData14 (io), E4 PerErr[GPIO11] (io), F2 IRQ2[GPIO42] (io), F3 PerData11 (io), F4 PerData13 (io), G1 PerData02 (io), G2 IRQ3[GPIO43] (io), G3 PerData07 (io), G4 IRQ1[GPIO41] (io), G25 IRQ4[GPIO44][DMAAck1] (io), H1 PerData00 (io), H2 ~{PerWBE}0 (io), H3 PerData05 (io), H4 PerData08 (io), H23 IRQ6[GPIO45][EOT1/TC1] (io), J1 DM2 (out), J2 ~{CAS} (out), J3 PerData03 (io), J4 PerData04 (io), K1 ~{WE} (out), K2 ~{RA}S (out), K3 DQS2 (io), K4 PerData01 (io), L2 ECC6 (io), L3 DM3 (out), M1 ECC2 (io), M2 ECC3 (io), M3 ECC7 (io), M4 DQS3 (io), N1 ~{BankSel}3 (out), N2 ECC1 (io), N3 ECC4 (io), N4 ECC5 (io), N24 ~{UART0_DT}R[GPIO38]* (io) "UART1_Tx", P2 ECC0 (io), P3 SVREF2A (in), P23 UARTSerClk (in), P24 ~{UART0_R}I[GPIO39]* (io) "UART1_Rx", P25 UART0_Tx (out), R1 ~{BankSel}2 (out), R2 ~{BankSel}1 (out), R4 ~{BankSel}0 (out), R25 ~{UART0_DC}D[GPIO34]* (io) "U\A\R\T\1\_\C\T\S/UART2_Tx", R26 ~{UART0_RT}S[GPIO37]* (io) "UART3_Tx", T25 UART0_Rx (in), U26 ~{UART0_DS}R[GPIO35]* (io) "U\A\R\T\1\_\R\T\S/UART2_Rx", V24 HoldPri[LeakTest] (in), V26 ~{UART0_CT}S[GPIO36]* (io) "UART3_Rx", W4 SVREF1 (in), W23 RefEn (in), W24 GPIO32 (io), Y3 TrcES0[GPIO52] (io), Y23 HoldReq[RcvrInh] (in), Y24 GPIO28 (io), Y25 RejectPkt[DrvrInh1] (in)
part B pins: A17 PCIAD03 (io), A18 PCIAD05 (io), A20 PCIAD09 (io), A22 ~{PCIReq}4 (in), A23 PCIAD12 (io), A24 PCIAD13 (io), A25 ~{PCIGnt}2 (out), AA2 MemData23 (io), AA3 MemData21 (io), AB2 MemAddr09 (out), AB23 Reserved, AB24 Reserved, AC2 MemData20 (io), AC3 MemData19 (io), AC5 MemData17 (io), AC10 MemData12 (io), AC11 MemData06 (io), AC13 MemData02 (io), AC14 EMCTxD3[GPIO19][NFALE]* (io) "EMC1TxD1", AC15 EMCTxClk,EMCRefClk (in), AC16 EMCCD[GPIO25][~{NFRdyBus}y]* (io) "EMC1RxErr", AC17 EMCRxD3[GPIO15]* (io) "EMC1RxD1", AC18 EMCMDIO (io), AC20 Reserved, AC21 Reserved, AC24 Reserved, AD1 MemAddr11 (out), AD2 MemAddr12 (out), AD5 MemData15 (io), AD8 MemData14 (io), AD10 MemData09 (io), AD13 MemData01 (io), AD14 EMCTxD0[GPIO16]* (io) "EMC0TxD0,EMC0TxD", AD15 EMCCrS[GPIO22]* (io) "EMC0CrsDV", AD16 EMCRxErr[GPIO20]* (io) "EMC0RxErr", AD18 EMCRxD2[GPIO14]* (io) "EMC1RxD0", AD19 EMCRxD0[GPIO12]* (io) "EMC0RxD0,EMC0RxD", AD20 Reserved, AD21 Reserved, AD22 Reserved, AD23 Reserved, AE3 MemData16 (io), AE4 MemSelfRef (in), AE7 MemData13 (io), AE8 MemData11 (io), AE9 MemData08 (io), AE10 MemData05 (io), AE11 MemData03 (io), AE12 MemData00 (io), AE13 ~{MemClkOut}0 (out), AE16 EMCMDClk (out), AE20 EMCRxD1[GPIO13]* (io) "EMC0RxD1,EMC1RxD", AE22 Reserved, AE23 Reserved, AE26 Reserved, AF2 MemData18 (io), AF8 MemData10 (io), AF9 MemData07 (io), AF10 MemData04 (io), AF12 MemClkOut0 (out), AF13 EMCTxD1[GPIO17]* (io) "EMC0TxD1,EMC1TxD", AF14 EMCTxD2[GPIO18][NFCLE]* (io) "EMC1TxD0", AF17 EMCDV[GPIO21][~{NFRE}n]* (io) "EMC1CrsDV", AF18 EMCTxErr[GPIO23][~{NFWE}n]* (io) "EMC1TxEn", AF19 EMCRxClk (io), AF20 EMCTxEn[GPIO24]* (io) "EMC0TxEn,EMCSync", AF23 Reserved, AF24 Reserved, B16 PCIAD00 (io), B17 PCIAD04 (io), B18 PCIC0/~{BE}0 (io), B19 ~{PCIReq}2 (in), B20 ~{PCIReq}1 (in), B21 PCIClk (in), B22 PCIAD11 (io), C15 PCIAD01 (io), C16 PCIAD06 (io), C18 PCIAD08 (io), C19 ~{PCIReq}3 (in), C20 PCIAD10 (io), C22 PCIAD14 (io), C23 PCIPar (io), D15 PCIAD02 (io), D16 PCIAD07 (io), D17 ~{PCIGnt}0/~{Req} (io), D19 ~{PCIRese}t (out), D20 ~{PCIIN}T (out), D22 PCIAD15 (io), D24 ~{PCIPEr}r (io), D25 ~{PCIGnt}3 (out), D26 ~{PCIDevSe}l (io), E23 ~{PCISto}p (io), E24 ~{PCIGnt}5 (out), E25 ~{PCIIRD}Y (io), E26 PCIC3/~{BE}3 (io), F23 PCIC1/~{BE}1 (io), F24 PCIC2/~{BE}2 (io), F25 PCIAD17 (io), G23 ~{PCITRD}Y (io), G24 ~{PCIFram}e (io), G26 PCIIDSel (in), H24 PCIAD16 (io), H25 ~{PCIGnt}4 (out), H26 ~{PCIReq}5 (in), J23 ~{PCISEr}r (io), J24 PCIAD18 (io), J25 PCIAD21 (io), K23 PCIAD19 (io), K24 PCIAD20 (io), K25 PCIAD23 (io), K26 PCIAD24 (io), L23 PCIAD22 (io), L24 ~{PCIGnt}1 (io), L25 PCIAD27 (io), M23 PCIAD26 (io), M24 PCIAD25 (io), M26 PCIAD30 (io), N23 PCIAD28 (io), N25 ~{PCIReq}0/~{Gn}t (in), N26 PCIAD29 (io), P1 MemAddr00 (out), P4 MemAddr01 (out), P26 PCIAD31 (io), R3 MemAddr10 (out), R23 Reserved, R24 Reserved, T2 MemAddr02 (out), T3 MemData30 (io), T4 MemAddr03 (out), T23 SCPDO (out), T24 IIC0SData (io), U1 MemAddr04 (out), U2 MemData31 (io), U3 MemData29 (io), U4 MemAddr06 (out), U23 Reserved, U24 SCPClkOut[IIC1SClk] (out), U25 IIC0SClk (io), V2 MemAddr05 (out), V3 MemData26 (io), V4 MemData24 (io), V23 Reserved, V25 SCPDI[IIC1SData] (in), W1 MemData28 (io), W2 MemData27 (io), W3 MemAddr07 (out), W25 Reserved, W26 Reserved, Y1 MemData25 (io), Y2 MemAddr08 (out), Y4 MemData22 (io), Y26 Reserved
part C pins: A1 GND (power), A2 GND (power), A6 GND (power), A9 GND (power), A11 GND (power), A16 GND (power), A21 GND (power), A26 GND (power), AA1 GND (power), AA5 SVDD (power), AA22 SVDD (power), AA26 GND (power), AB5 VDD (power), AB6 SVDD (power), AB7 SVDD (power), AB8 SVDD (power), AB9 GND (power), AB10 VDD (power), AB11 VDD (power), AB12 VDD (power), AB13 GND (power), AB14 SVDD (power), AB15 VDD (power), AB16 VDD (power), AB17 VDD (power), AB18 GND (power), AB19 SVDD (power), AB20 SVDD (power), AB21 SVDD (power), AB22 VDD (power), AC1 GND (power), AC4 GND (power), AC7 GND (power), AC23 GND (power), AD3 GND (power), AD17 AVDD (power), AD24 GND (power), AE1 GND (power), AE2 GND (power), AE14 SAVDD (power), AE17 AGND (power), AE25 GND (power), AF1 GND (power), AF6 GND (power), AF11 GND (power), AF15 SAGND (power), AF16 GND (power), AF21 GND (power), AF25 GND (power), AF26 GND (power), B2 GND (power), B25 GND (power), B26 GND (power), C3 GND (power), C24 GND (power), D4 GND (power), D21 GND (power), D23 GND (power), E5 VDD (power), E6 OVDD (power), E7 OVDD (power), E8 OVDD (power), E9 GND (power), E10 VDD (power), E11 VDD (power), E12 VDD (power), E13 OVDD (power), E14 GND (power), E15 VDD (power), E16 VDD (power), E17 VDD (power), E18 GND (power), E19 OVDD (power), E20 OVDD (power), E21 OVDD (power), E22 VDD (power), F1 GND (power), F5 OVDD (power), F22 OVDD (power), F26 GND (power), G5 OVDD (power), G22 OVDD (power), H5 OVDD (power), H22 OVDD (power), J5 GND (power), J22 GND (power), J26 GND (power), K5 VDD (power), K22 VDD (power), L1 GND (power), L4 GND (power), L5 VDD (power), L11 GND (power), L12 OVDD (power), L13 GND (power), L14 GND (power), L15 OVDD (power), L16 GND (power), L22 VDD (power), L26 GND (power), M5 VDD (power), M11 OVDD (power), M12 GND (power), M13 GND (power), M14 VDD (power), M15 GND (power), M16 OVDD (power), M22 VDD (power), M25 GND (power), N5 GND (power), N11 GND (power), N12 VDD (power), N13 GND (power), N14 GND (power), N15 GND (power), N16 GND (power), N22 OVDD (power), P5 SVDD (power), P11 GND (power), P12 GND (power), P13 GND (power), P14 GND (power), P15 VDD (power), P16 GND (power), P22 GND (power), R5 VDD (power), R11 SVDD (power), R12 GND (power), R13 VDD (power), R14 GND (power), R15 GND (power), R16 SVDD (power), R22 VDD (power), T1 GND (power), T5 VDD (power), T11 GND (power), T12 SVDD (power), T13 GND (power), T14 GND (power), T15 SVDD (power), T16 GND (power), T22 VDD (power), T26 GND (power), U5 VDD (power), U22 VDD (power), V1 GND (power), V5 GND (power), V22 GND (power), W5 SVDD (power), W22 SVDD (power), Y5 SVDD (power), Y22 SVDD (power)

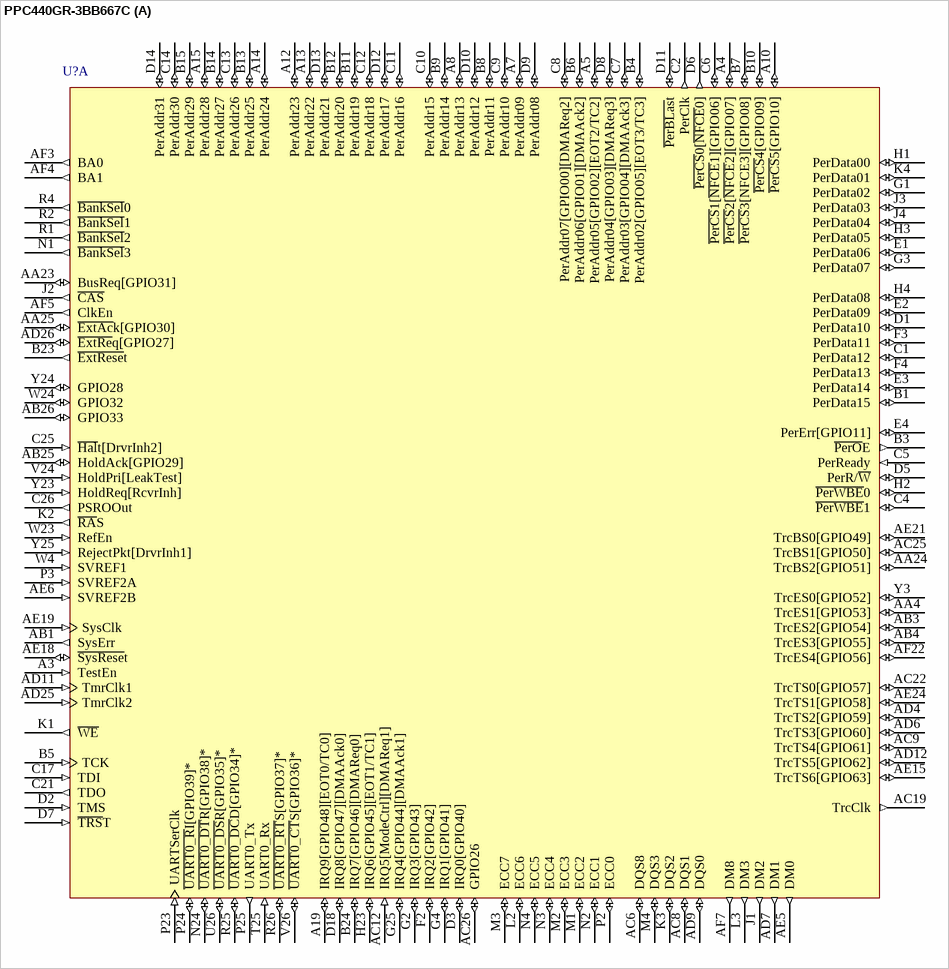
[diagram p251: symbol PPC440GR-3BB667C]

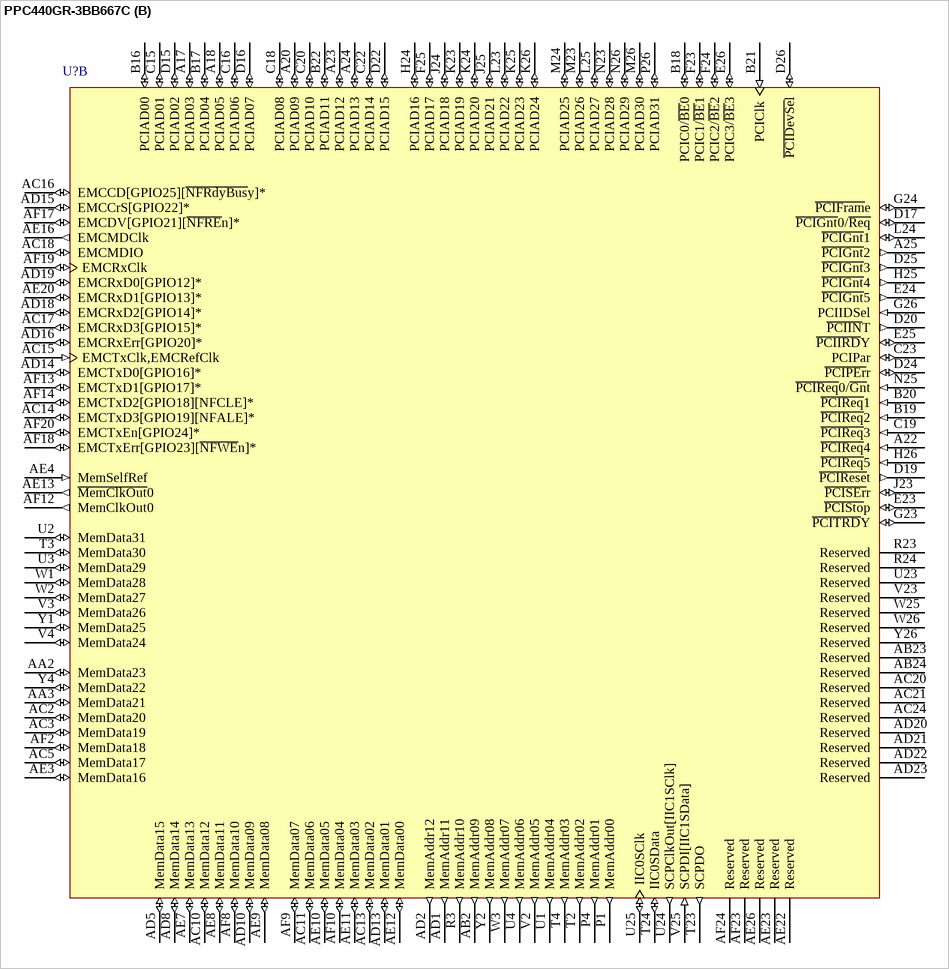
[diagram p252: symbol PPC440GR-3BB667C]

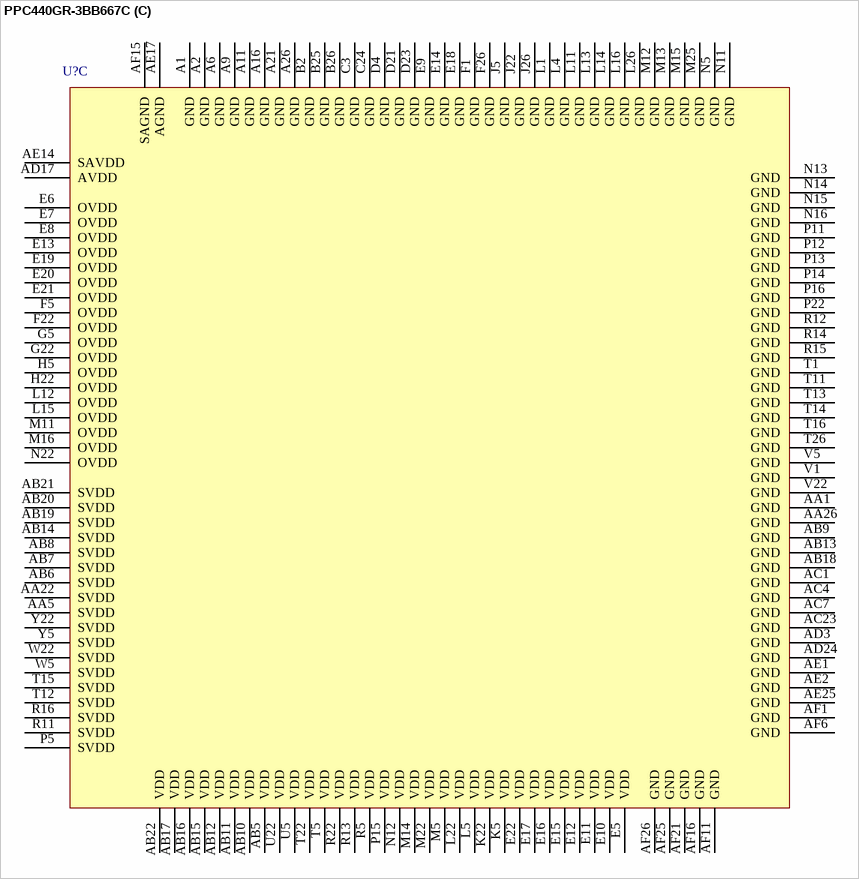
[diagram p253: symbol PPC440GR-3BB667C]